# EAGLE library part HIROSEDF12NB(3.5)-50DP-0.5V(51) (library DLP_TI)
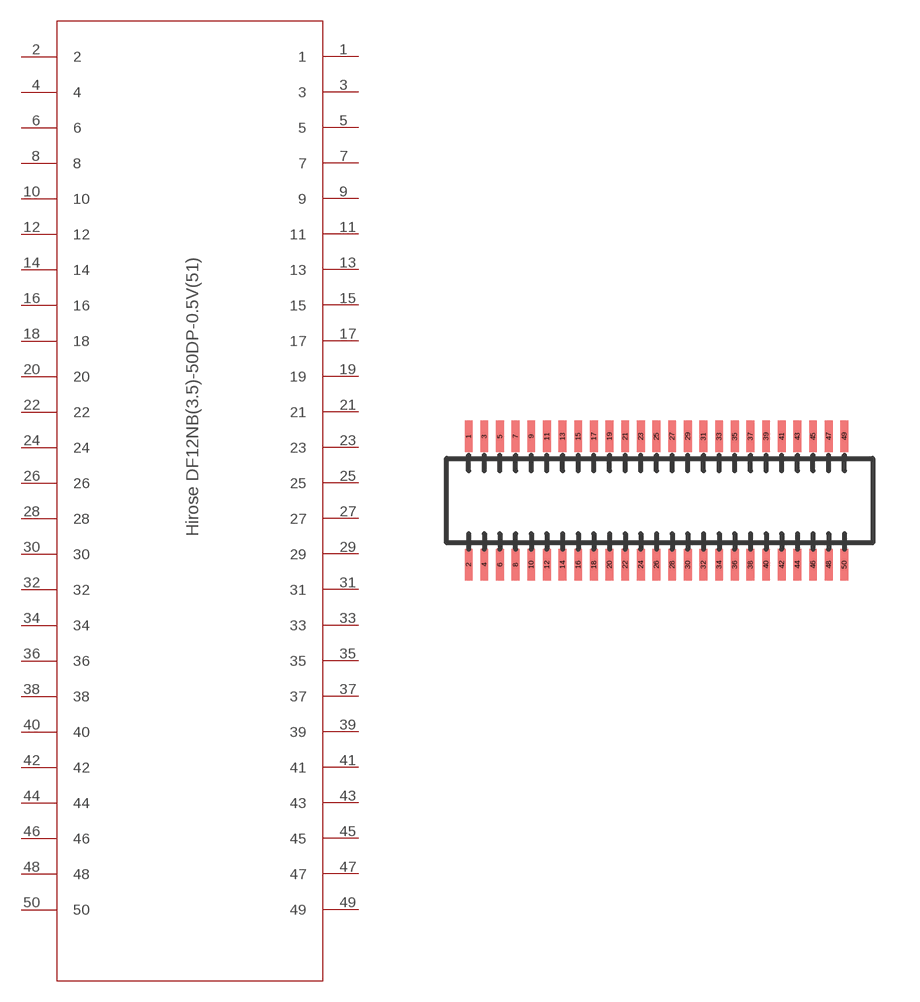
[diagram p5: symbol with the pads of HIROSEDF12NB(3.5)-50DP-0.5V(51); footprint HIROSEDF12NB(3.5)-50DP-0.5V(51)]

Designator prefix -

## HIROSEDF12NB(3.5)-50DP-0.5V(51)  [HIROSEDF12NB(3.5)-50DP-0.5V(51)]
1  1
2  2
3  3
4  4
5  5
6  6
7  7
8  8
9  9
10  10
11  11
12  12
13  13
14  14
15  15
16  16
17  17
18  18
19  19
20  20
21  21
22  22
23  23
24  24
25  25
26  26
27  27
28  28
29  29
30  30
31  31
32  32
33  33
34  34
35  35
36  36
37  37
38  38
39  39
40  40
41  41
42  42
43  43
44  44
45  45
46  46
47  47
48  48
49  49
50  50

## Footprint HIROSEDF12NB(3.5)-50DP-0.5V(51) (pad centres in mm)
smd 0.25 x 1: 1 0,4.1; 2 0,0; 3 0.5,4.1; 4 0.5,0; 5 1,4.1; 6 1,0; 7 1.5,4.1; 8 1.5,0; 9 2,4.1; 10 2,0; 11 2.5,4.1; 12 2.5,0; 13 3,4.1; 14 3,0; 15 3.5,4.1; 16 3.5,0; 17 4,4.1; 18 4,0; 19 4.5,4.1; 20 4.5,0; 21 5,4.1; 22 5,0; 23 5.5,4.1; 24 5.5,0; 25 6,4.1; 26 6,0; 27 6.5,4.1; 28 6.5,0; 29 7,4.1; 30 7,0; 31 7.5,4.1; 32 7.5,0; 33 8,4.1; 34 8,0; 35 8.5,4.1; 36 8.5,0; 37 9,4.1; 38 9,0; 39 9.5,4.1; 40 9.5,0; 41 10,4.1; 42 10,0; 43 10.5,4.1; 44 10.5,0; 45 11,4.1; 46 11,0; 47 11.5,4.1; 48 11.5,0; 49 12,4.1; 50 12,0